# EAGLE library part 64902429522 (library Wire-to-Board)
WR-MPC4-4.20mm Male Dual Row Angled Header,24 pins=>Code : WR-MPC4_Stiftbuchse_2reihig_abgewinkelt_64902429522 <http://katalog.we-online.de/media/thumbs2/eican/thb_WR-MPC4_Stiftbuchse_2reihig_abgewinkelt_64901029522.jpg> Details see: http://katalog.we-online.de/en/em/649_0xx_295_22 Created 2014-06-06, Karrer Zheng 2014 (C) Würth Elektronik
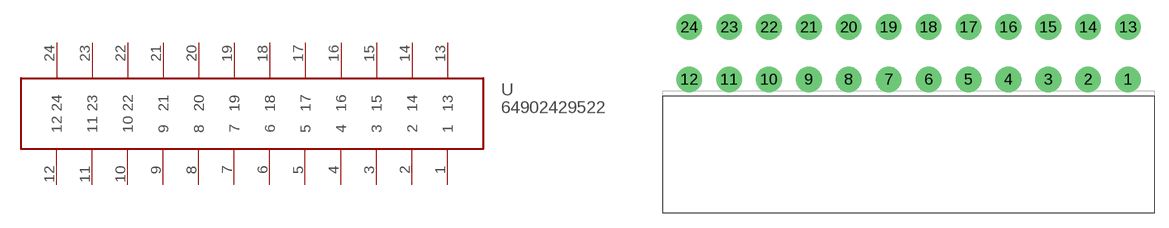
[diagram p324: symbol with the pads of 64902429522; footprint 64902429522]

Designator prefix -

## 64902429522  [64902429522]
1  1
2  2
3  3
4  4
5  5
6  6
7  7
8  8
9  9
10  10
11  11
12  12
13  13
14  14
15  15
16  16
17  17
18  18
19  19
20  20
21  21
22  22
23  23
24  24

## Footprint 64902429522 (pad centres in mm)
WR-MPC4-4.20mm Male Dual Row Angled Header,24 pins
drill 1.8: 1 20.885,-2.75; 2 16.685,-2.75; 3 12.485,-2.75; 4 8.285,-2.75; 5 4.085,-2.75; 6 -0.115,-2.75; 7 -4.315,-2.75; 8 -8.515,-2.75; 9 -12.715,-2.75; 10 -16.915,-2.75; 11 -21.115,-2.75; 12 -25.315,-2.75; 13 20.885,2.75; 14 16.685,2.75; 15 12.485,2.75; 16 8.285,2.75; 17 4.085,2.75; 18 -0.115,2.75; 19 -4.315,2.75; 20 -8.515,2.75; 21 -12.715,2.75; 22 -16.915,2.75; 23 -21.115,2.75; 24 -25.315,2.75